# Altium footprint library PCB - LEADLESS - WLCSP - NXP WLCSP20 2x1.61mm.PcbLib: 1 footprints
Each footprint in its own frame and in the unit in brackets; x right, y up, seen from the top. Pads: shape width x height; smd on the part's side, far side on the other; paste and mask are expansions set on the pad; w line width, h text height; cw(c..) or ccw(c..) is an arc to the next point about the centre after c.
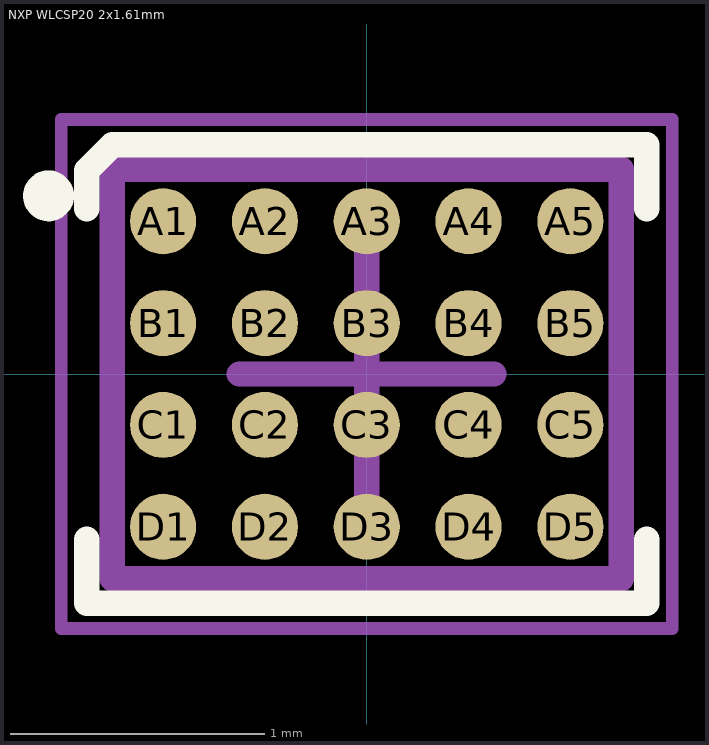
[diagram p0: the footprint, top view; thin cyan lines are the x and y axes]

## NXP WLCSP20 2x1.61mm [mm] "BGA, 20-Leads, Body 2.00x1.61mmx0.60mm, Pitch 0.40mm"
height 0.6
pads (20):
  round 0.26 smd: A1(-0.8,0.6) A2(-0.4,0.6) A3(0,0.6) A4(0.4,0.6) A5(0.8,0.6) B1(-0.8,0.2) B2(-0.4,0.2) B3(0,0.2) B4(0.4,0.2) B5(0.8,0.2) C1(-0.8,-0.2) C2(-0.4,-0.2) C3(0,-0.2) C4(0.4,-0.2) C5(0.8,-0.2) D1(-0.8,-0.6) D2(-0.4,-0.6) D3(0,-0.6) D4(0.4,-0.6) D5(0.8,-0.6)
Top Overlay:
  circle w0.1: c-1.25,0.7 r0.05
  lines w0.1: -1.1,-0.65 -1.1,-0.9 1.1,-0.9 1.1,-0.65 ; -1.1,0.65 -1.1,0.8 -1,0.9 1.1,0.9 1.1,0.65
Mechanical 13:
  lines w0.1: -1,-0.805 -1,0.805 1,0.805 1,-0.805 -1,-0.805
Mechanical 15 (Mech15):
  lines w0.05: -1.2,-1 -1.2,1 1.2,1 1.2,-1 -1.2,-1
  lines w0.1: -0.5,0 0.5,0 ; 0,-0.5 0,0.5
3D body "NXP - WLCSP20 2x1.61mm v1.step": height 0.6, standoff 0, extent -0.997,-0.805 0.997,0.804